# EAGLE library part CONN_HIROSE-DF9A-51R-1V (library psas_eagle_library)
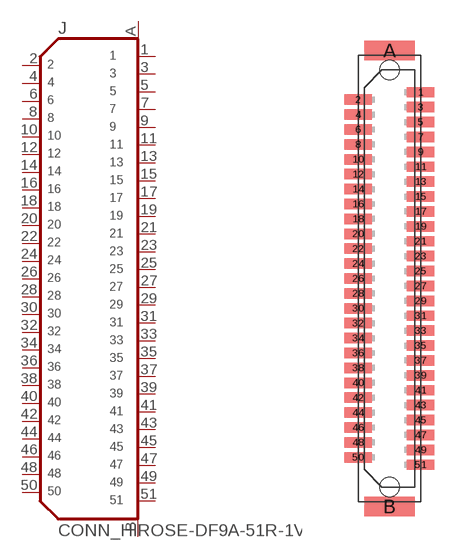
[diagram p32: symbol with the pads of HIROSE-DF9-51S-1V; footprint HIROSE-DF9-51S-1V]

Designator prefix J

## CONN_HIROSE-DF9A-51R-1V  [HIROSE-DF9-51S-1V]
1  1  pas
2  2  pas
3  3  pas
4  4  pas
5  5  pas
6  6  pas
7  7  pas
8  8  pas
9  9  pas
10  10  pas
11  11  pas
12  12  pas
13  13  pas
14  14  pas
15  15  pas
16  16  pas
17  17  pas
18  18  pas
19  19  pas
20  20  pas
21  21  pas
22  22  pas
23  23  pas
24  24  pas
25  25  pas
26  26  pas
27  27  pas
28  28  pas
29  29  pas
30  30  pas
31  31  pas
32  32  pas
33  33  pas
34  34  pas
35  35  pas
36  36  pas
37  37  pas
38  38  pas
39  39  pas
40  40  pas
41  41  pas
42  42  pas
43  43  pas
44  44  pas
45  45  pas
46  46  pas
47  47  pas
48  48  pas
49  49  pas
50  50  pas
51  51  pas
A  A  pas
B  B  pas

## Footprint HIROSE-DF9-51S-1V (pad centres in mm)
smd 1.85 x 0.7: 1 2.1,12.5; 2 -2.1,12; 3 2.1,11.5; 4 -2.1,11; 5 2.1,10.5; 6 -2.1,10; 7 2.1,9.5; 8 -2.1,9; 9 2.1,8.5; 10 -2.1,8; 11 2.1,7.5; 12 -2.1,7; 13 2.1,6.5; 14 -2.1,6; 15 2.1,5.5; 16 -2.1,5; 17 2.1,4.5; 18 -2.1,4; 19 2.1,3.5; 20 -2.1,3; 21 2.1,2.5; 22 -2.1,2; 23 2.1,1.5; 24 -2.1,1; 25 2.1,0.5; 26 -2.1,0; 27 2.1,-0.5; 28 -2.1,-1; 29 2.1,-1.5; 30 -2.1,-2; 31 2.1,-2.5; 32 -2.1,-3; 33 2.1,-3.5; 34 -2.1,-4; 35 2.1,-4.5; 36 -2.1,-5; 37 2.1,-5.5; 38 -2.1,-6; 39 2.1,-6.5; 40 -2.1,-7; 41 2.1,-7.5; 42 -2.1,-8; 43 2.1,-8.5; 44 -2.1,-9; 45 2.1,-9.5; 46 -2.1,-10; 47 2.1,-10.5; 48 -2.1,-11; 49 2.1,-11.5; 50 -2.1,-12; 51 2.1,-12.5
smd 3.4 x 1.3: A 0,15.3; B 0,-15.3
hole 1.321 at 0,14
hole 1.321 at 0,-14